# EAGLE library part POWERMISC_MAX5033BASA+T (library motor_board_tmc)
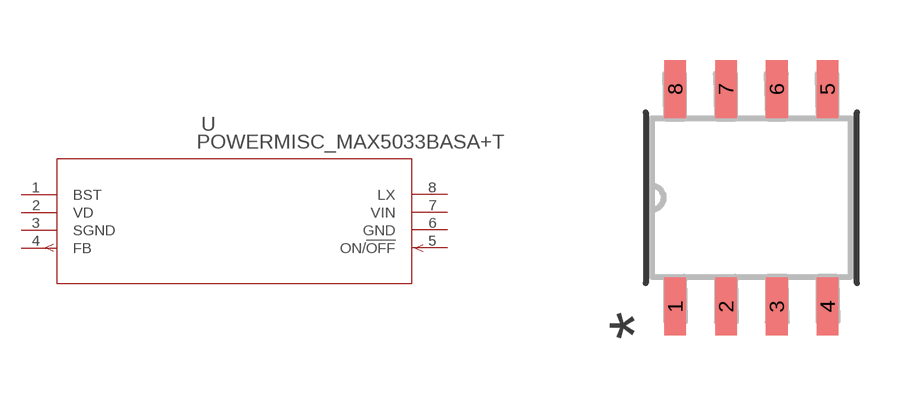
[diagram p3: symbol with the pads of POWERMISC_21-0041B_8_MXM; footprint POWERMISC_21-0041B_8_MXM]

Designator prefix U

## POWERMISC_MAX5033BASA+T (BUILT_BY: EMA_UL_Team; MANUFACTURER_PART_NUMBER: max5033basa+T; SOURCELIBRARY: Maxim_2014-06-20; VENDOR: Maxim Integrated Products)  [POWERMISC_21-0041B_8_MXM]
1  BST  pas
2  VD  pwr
3  SGND  pwr
4  FB  out
5  ON/!OFF  in
6  GND  pwr
7  VIN  pwr
8  LX  pas

## Footprint POWERMISC_21-0041B_8_MXM (pad centres in mm)
smd 0.543 x 1.455: 1 -1.905,-2.721; 2 -0.635,-2.721; 3 0.635,-2.721; 4 1.905,-2.721; 5 1.905,2.721; 6 0.635,2.721; 7 -0.635,2.721; 8 -1.905,2.721